# EAGLE library part WE-UNIT_NXP_750871013 (library PowerMagnetics)
Off-Line Transformer WE-Unit NXP - Nominal input voltage: 85-265 VAC - Operating temperature: -40°C to +125 °C - Isolation voltage 4 kVAC -- Especially designed for several ICs from NXP TEA1521T -- Universal input -- Smart meters -- Dimmable 12 V LED driver -- Offline-switch mode power supplies <http://katalog.we-online.de/media/images/ctm/UtUNIT_NXP_pf2.jpg> Details see: http://katalog.we-online.de/en/ctm/MID-UNIT_NXP/750871013? Updated by Dan Xu 2014-07-11 2014 (C) Würth Elektronik
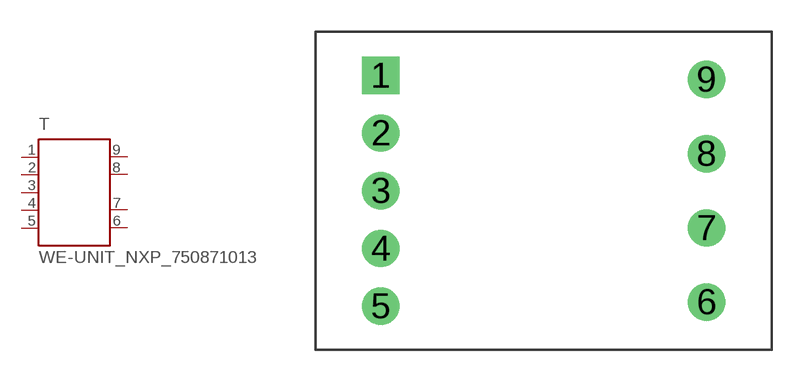
[diagram p63: symbol with the pads of WE_EE13/7/4_THT_HORIZONTAL_9PIN; footprint WE_EE13/7/4_THT_HORIZONTAL_9PIN]

Designator prefix T

## WE-UNIT_NXP_750871013  [WE_EE13/7/4_THT_HORIZONTAL_9PIN]
1  5  pas
2  4  pas
3  3  pas
4  2  pas
5  1  pas
6  9  pas
7  8  pas
8  7  pas
9  6  pas

## Footprint WE_EE13/7/4_THT_HORIZONTAL_9PIN (pad centres in mm)
Transformer, EE13/7/4 THT Horizontal 9 Pins
drill 1.17 square: 1 -7.675,5.44
drill 1.17: 2 -7.675,2.72; 3 -7.675,0; 4 -7.675,-2.72; 5 -7.675,-5.44; 6 7.675,-5.25; 7 7.675,-1.75; 8 7.675,1.75; 9 7.675,5.25